# Altium footprint library S-Contactor without auxiliary power.PCBLIB: 5 footprints
Each footprint in its own frame and in the unit in brackets; x right, y up, seen from the top. Pads: shape width x height; smd on the part's side, far side on the other; paste and mask are expansions set on the pad; w line width, h text height; cw(c..) or ccw(c..) is an arc to the next point about the centre after c.
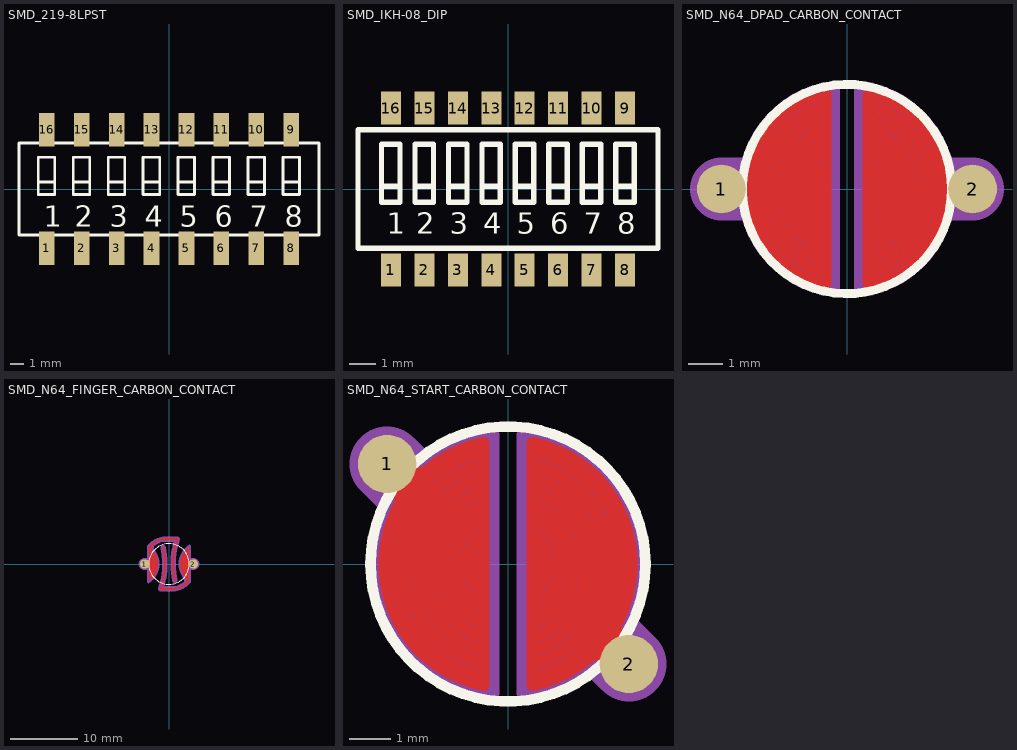
[diagram p0: the footprints below, top view; thin cyan lines are the x and y axes]

## SMD_219-8LPST [mm]
pads (16):
  rect 1.13x2.44 smd: 1(-8.89,-4.3) 2(-6.35,-4.3) 3(-3.81,-4.3) 4(-1.27,-4.3) 5(1.27,-4.3) 6(3.81,-4.3) 7(6.35,-4.3) 8(8.89,-4.3) 9(8.89,4.3) 10(6.35,4.3) 11(3.81,4.3) 12(1.27,4.3) 13(-1.27,4.3) 14(-3.81,4.3) 15(-6.35,4.3) 16(-8.89,4.3)
Top Overlay:
  lines w0.2: -9.5,0.5 -8.4,0.5 ; -6.96,0.5 -5.86,0.5 ; -4.42,0.5 -3.32,0.5 ; -1.88,0.5 -0.78,0.5 ; 0.66,0.5 1.76,0.5 ; 3.2,0.5 4.3,0.5 ; 5.74,0.5 6.84,0.5 ; 8.28,0.5 9.38,0.5 ; -10.895,-3.35 -10.895,3.35 10.895,3.35 10.895,-3.35 -10.895,-3.35 ; -9.5,-0.4 -8.3,-0.4 -8.3,2.3 -9.5,2.3 -9.5,-0.4 ; -6.96,-0.4 -5.76,-0.4 -5.76,2.3 -6.96,2.3 -6.96,-0.4 ; -4.42,-0.4 -3.22,-0.4 -3.22,2.3 -4.42,2.3 -4.42,-0.4 ; -1.88,-0.4 -0.68,-0.4 -0.68,2.3 -1.88,2.3 -1.88,-0.4 ; 0.66,-0.4 1.86,-0.4 1.86,2.3 0.66,2.3 0.66,-0.4 ; 3.2,-0.4 4.4,-0.4 4.4,2.3 3.2,2.3 3.2,-0.4 ; 5.74,-0.4 6.94,-0.4 6.94,2.3 5.74,2.3 5.74,-0.4 ; 8.28,-0.4 9.48,-0.4 9.48,2.3 8.28,2.3 8.28,-0.4
  text "1" at -9.09,-2.74 h1.52
  text "2" at -6.85,-2.74 h1.52
  text "3" at -4.31,-2.74 h1.52
  text "4" at -1.77,-2.74 h1.52
  text "5" at 0.77,-2.74 h1.52
  text "6" at 3.31,-2.74 h1.52
  text "7" at 5.85,-2.74 h1.52
  text "8" at 8.39,-2.74 h1.52

## SMD_IKH-08_DIP [mm]
height 1.5
pads (16):
  rect 0.76x1.25 smd: 1(-4.445,-3.075) 2(-3.175,-3.075) 3(-1.905,-3.075) 4(-0.635,-3.075) 5(0.635,-3.075) 6(1.905,-3.075) 7(3.175,-3.075) 8(4.445,-3.075) 9(4.445,3.075) 10(3.175,3.075) 11(1.905,3.075) 12(0.635,3.075) 13(-0.635,3.075) 14(-1.905,3.075) 15(-3.175,3.075) 16(-4.445,3.075)
Top Overlay:
  lines w0.2: -4.8,0.1 -4.1,0.1 ; -3.53,0.1 -2.83,0.1 ; -2.26,0.1 -1.56,0.1 ; -0.99,0.1 -0.29,0.1 ; 0.28,0.1 0.98,0.1 ; 1.55,0.1 2.25,0.1 ; 2.82,0.1 3.52,0.1 ; 4.09,0.1 4.79,0.1 ; -5.695,-2.25 -5.695,2.25 5.695,2.25 5.695,-2.25 -5.695,-2.25 ; -4.8,-0.5 -4.1,-0.5 -4.1,1.7 -4.8,1.7 -4.8,-0.5 ; -3.53,-0.5 -2.83,-0.5 -2.83,1.7 -3.53,1.7 -3.53,-0.5 ; -2.26,-0.5 -1.56,-0.5 -1.56,1.7 -2.26,1.7 -2.26,-0.5 ; -0.99,-0.5 -0.29,-0.5 -0.29,1.7 -0.99,1.7 -0.99,-0.5 ; 0.28,-0.5 0.98,-0.5 0.98,1.7 0.28,1.7 0.28,-0.5 ; 1.55,-0.5 2.25,-0.5 2.25,1.7 1.55,1.7 1.55,-0.5 ; 2.82,-0.5 3.52,-0.5 3.52,1.7 2.82,1.7 2.82,-0.5 ; 4.09,-0.5 4.79,-0.5 4.79,1.7 4.09,1.7 4.09,-0.5
  text "8" at 4.14,-1.7 h0.8
  text "7" at 2.87,-1.7 h0.8
  text "6" at 1.6,-1.7 h0.8
  text "5" at 0.33,-1.7 h0.8
  text "4" at -0.94,-1.7 h0.8
  text "3" at -2.21,-1.7 h0.8
  text "2" at -3.48,-1.7 h0.8
  text "1" at -4.6,-1.7 h0.8

## SMD_N64_DPAD_CARBON_CONTACT [mm]
pads (2):
  round 1.4 smd: 1(-3.6,0) 2(3.6,0)
Top Layer:
  lines w0.3: -3.6,0 -0.6,0 ; -0.657,2.064 ccw(c0,0) -0.622,-2.075 ; -0.651,-1.086 cw(c0,0) -0.651,1.086 ; -0.636,1.431 ccw(c0,0) -0.617,-1.439 ; -0.632,-0.211 cw(c0,0) -0.632,0.211 ; -0.629,-0.733 cw(c0,0) -0.629,0.733 ; -0.622,-2.386 cw(c0,0) -0.622,2.386 ; -0.621,-1.76 cw(c0,0) -0.621,1.76 ; 0.617,1.439 cw(c0,0) 0.636,-1.431 ; 0.621,-1.76 ccw(c0,0) 0.621,1.76 ; 0.622,-2.386 ccw(c0,0) 0.622,2.386 ; 0.622,2.075 cw(c0,0) 0.657,-2.064 ; 0.629,-0.733 ccw(c0,0) 0.629,0.733 ; 0.632,-0.211 ccw(c0,0) 0.632,0.211 ; 0.651,-1.086 ccw(c0,0) 0.651,1.086 ; 3.6,0 0.6,0 ; -0.6,0 -0.6,2.7 ccw(c0,0) -0.6,-2.7 -0.6,0 ; 0.6,0 0.6,2.7 cw(c0,0) 0.6,-2.7 0.6,0
  lines w1: -3.6,0 -2.6,0 ; 2.5,0 3.6,0
Top Overlay:
  circle w0.254: c0,0 r3
Top Solder:
  lines w0.4: -0.594,-2.377 cw(c0,0) -0.572,2.382 ; -0.589,-1.964 cw(c0,0) -0.563,1.971 ; -0.549,-1.556 cw(c0,0) -0.522,1.565 ; -0.517,-1.138 cw(c0,0) -0.517,1.138 ; -0.51,-0.68 cw(c0,0) -0.51,0.68 ; -0.503,-0.168 cw(c0,0) -0.503,0.168 ; -0.501,2.806 ccw(c0,0) -0.501,-2.806 ; -0.5,-2.8 -0.5,2.8 ; 0.5,-2.8 0.5,2.8 ; 0.501,2.806 cw(c0,0) 0.501,-2.806 ; 0.503,-0.168 ccw(c0,0) 0.503,0.168 ; 0.51,-0.68 ccw(c0,0) 0.51,0.68 ; 0.517,-1.138 ccw(c0,0) 0.517,1.138 ; 0.522,-1.565 ccw(c0,0) 0.549,1.556 ; 0.563,-1.971 ccw(c0,0) 0.589,1.964 ; 0.572,-2.382 ccw(c0,0) 0.594,2.377
  lines w1.6: -3.6,0 -1.8,0 ; 1.8,0 3.6,0
Mechanical 3:
  lines w0.4: -0.494,-1.235 cw(c0,0) -0.494,1.235 ; -0.463,-1.667 cw(c0,0) -0.463,1.667 ; -0.445,-0.816 cw(c0,0) -0.416,0.832 ; -0.424,-0.318 cw(c0,0) -0.424,0.318 ; -0.418,-2.089 cw(c0,0) -0.418,2.089 ; -0.416,-2.496 cw(c0,0) -0.416,2.496 ; -0.4,-2.903 cw(c0,0) -0.4,2.903 ; -0.4,-2.9 -0.4,2.9 ; 0.401,-2.903 ccw(c0,0) 0.4,2.903 ; 0.4,-2.9 0.4,2.9 ; 0.416,-2.496 ccw(c0,0) 0.416,2.496 ; 0.416,0.832 cw(c0,0) 0.445,-0.816 ; 0.418,-2.089 ccw(c0,0) 0.418,2.089 ; 0.424,-0.318 ccw(c0,0) 0.424,0.318 ; 0.463,-1.667 ccw(c0,0) 0.463,1.667 ; 0.494,-1.235 ccw(c0,0) 0.494,1.235
  lines w1.8: -3.6,0 -2.3,0 ; 2.3,0 3.6,0

## SMD_N64_FINGER_CARBON_CONTACT [mm]
pads (2):
  round 1.4 smd: 1(-3.6,0) 2(3.6,0)
Top Layer:
  lines w0.3: -3.6,0 -2.8,0 ; -0.862,2.364 cw(c-11.4,0) -1.247,-3.683 0.447,-3.683 ccw(c0.447,-0.617) 2.615,-2.785 ccw(c2.169,-2.339) 2.8,-2.339 ; 0.862,-2.364 cw(c11.4,0) 1.247,3.683 -0.447,3.683 ccw(c-0.447,0.617) -2.615,2.785 ccw(c-2.169,2.339) -2.8,2.339 ; 2.8,0 3.6,0 ; -2.8,2.339 ccw(c-2.465,2.339) -2.702,2.102 -2.599,1.999 cw(c-4.528,0.07) -1.8,0.07 cw(c-4.866,0.07) -2.698,-2.098 -2.8,-2.2 -2.8,2.339 ; 2.8,-2.339 ccw(c2.465,-2.339) 2.702,-2.102 2.599,-1.999 cw(c4.528,-0.07) 1.8,-0.07 cw(c4.866,-0.07) 2.698,2.098 2.8,2.2 2.8,-2.339
  lines w0.4: -2.708,-1.671 ccw(c-4.7,0) -2.697,1.658 ; 2.697,-1.658 cw(c4.7,0) 2.708,1.671
  lines w0.45: -2.703,-1.141 ccw(c-4.7,0) -2.703,1.141 ; -2.657,-0.51 ccw(c-4.9,0) -2.648,0.469 ; 2.648,-0.469 cw(c4.9,0) 2.657,0.51 ; 2.703,-1.141 cw(c4.7,0) 2.703,1.141
  lines w1: -3.6,0 -2.8,0 ; 2.8,0 3.6,0
Top Overlay:
  circle w0.1: c0,0 r3
Top Solder:
  lines w0.4: -2.949,-2.478 -2.949,2.471 ; -2.945,-2.484 ccw(c-4.8,0) -2.941,2.481 ; -2.929,-0.707 ccw(c-4.8,0) -2.923,0.691 ; -2.918,-1.322 ccw(c-4.8,0) -2.902,1.299 ; -2.916,-1.934 ccw(c-4.8,0) -2.916,1.934 ; 2.902,-1.299 cw(c4.8,0) 2.918,1.322 ; 2.916,-1.934 cw(c4.8,0) 2.916,1.934 ; 2.923,-0.691 cw(c4.8,0) 2.929,0.707 ; 2.941,-2.481 cw(c4.8,0) 2.945,2.484 ; 2.949,-2.471 2.949,2.478
  lines w0.6: -2.8,2.1 -2.8,2.6 -2.615,2.785 cw(c-0.447,0.617) -0.447,3.683 1.247,3.683 ; -1.247,-3.683 0.447,-3.683 ccw(c0.447,-0.617) 2.615,-2.785 2.8,-2.6 2.8,-2.1 ; -1.238,-3.658 ccw(c-11.4,0) -0.867,2.385 ; 0.867,-2.385 cw(c11.4,0) 1.238,3.658
  lines w1.6: -3.6,0 -2.4,0 ; 2.4,0 3.6,0
Mechanical 3:
  lines w0.4: -3.049,2.671 -3.049,-2.678 ccw(c-4.8,0) -3.049,2.678 ; -3.028,-1.619 ccw(c-4.8,0) -3.028,1.619 ; -3.027,-2.167 ccw(c-4.8,0) -3.007,2.15 ; -2.993,-0.856 ccw(c-4.8,0) -2.976,0.821 ; 2.976,-0.821 cw(c4.8,0) 2.993,0.856 ; 3.007,-2.15 cw(c4.8,0) 3.027,2.167 ; 3.028,-1.619 cw(c4.8,0) 3.028,1.619 ; 3.049,-2.678 cw(c4.8,0) 3.049,2.678 3.049,-2.671
  lines w0.8: -2.8,2.6 -2.615,2.785 ; -2.6,2.1 -2.6,2.748 ccw(c-2.652,2.748) -2.615,2.785 ; -0.867,2.385 cw(c-11.4,0) -1.247,-3.683 0.447,-3.683 ccw(c0.447,-0.617) 2.615,-2.785 ; 0.867,-2.385 cw(c11.4,0) 1.247,3.683 -0.447,3.683 ccw(c-0.447,0.617) -2.615,2.785 ; 2.6,-2.1 2.6,-2.748 ccw(c2.652,-2.748) 2.615,-2.785 ; 2.8,-2.6 2.615,-2.785
  lines w1.8: -3.6,0 -2.4,0 ; 2.4,0 3.6,0

## SMD_N64_START_CARBON_CONTACT [mm]
pads (2):
  round 1.4 smd: 1(-2.9,2.4) 2(2.9,-2.4)
Top Layer:
  lines w0.3: -0.657,2.064 ccw(c0,0) -0.622,-2.075 ; -0.651,-1.086 cw(c0,0) -0.651,1.086 ; -0.636,1.431 ccw(c0,0) -0.617,-1.439 ; -0.632,-0.211 cw(c0,0) -0.632,0.211 ; -0.629,-0.733 cw(c0,0) -0.629,0.733 ; -0.622,-2.386 cw(c0,0) -0.622,2.386 ; -0.621,-1.76 cw(c0,0) -0.621,1.76 ; -0.6,-2.7 cw(c0,0) -0.6,2.7 ; 0.6,-2.7 ccw(c0,0) 0.6,2.7 ; 0.617,1.439 cw(c0,0) 0.636,-1.431 ; 0.621,-1.76 ccw(c0,0) 0.621,1.76 ; 0.622,-2.386 ccw(c0,0) 0.622,2.386 ; 0.622,2.075 cw(c0,0) 0.657,-2.064 ; 0.629,-0.733 ccw(c0,0) 0.629,0.733 ; 0.632,-0.211 ccw(c0,0) 0.632,0.211 ; 0.651,-1.086 ccw(c0,0) 0.651,1.086 ; -0.6,-2.9 cw(c0,0) -0.6,2.9 -0.6,0 -0.6,-2.9 ; 0.6,-2.9 ccw(c0,0) 0.6,2.9 0.6,0 0.6,-2.9
  lines w1: -2.9,2.4 -1.6,1.1 ; 1.6,-1.1 2.9,-2.4
Top Overlay:
  circle w0.254: c0,0 r3.3
Top Solder:
  lines w0.4: -0.585,1.755 ccw(c0,0) -0.522,-1.775 ; -0.571,-1.333 cw(c0,0) -0.571,1.333 ; -0.54,-0.9 cw(c0,0) -0.51,0.918 ; -0.521,-2.189 cw(c0,0) -0.521,2.189 ; -0.52,-2.599 cw(c0,0) -0.52,2.599 ; -0.516,-0.516 cw(c0,0) -0.516,0.516 ; 0.51,-0.918 ccw(c0,0) 0.54,0.9 ; 0.516,-0.516 ccw(c0,0) 0.516,0.516 ; 0.52,-2.599 ccw(c0,0) 0.52,2.599 ; 0.521,-2.189 ccw(c0,0) 0.521,2.189 ; 0.522,1.775 cw(c0,0) 0.585,-1.755 ; 0.571,-1.333 ccw(c0,0) 0.571,1.333 ; -0.5,-3 cw(c0,0) -0.5,3 -0.5,-3 ; 0.5,-3 ccw(c0,0) 0.5,3 0.5,-3
  lines w1.6: -2.9,2.4 -1.9,1.4 ; 1.9,-1.4 2.9,-2.4
Mechanical 3:
  lines w0.4: -0.468,-1.029 cw(c0,0) -0.468,1.029 ; -0.467,-0.561 cw(c0,0) -0.467,0.561 ; -0.457,-2.285 cw(c0,0) -0.457,2.285 ; -0.456,-1.46 cw(c0,0) -0.456,1.46 ; -0.449,-2.693 cw(c0,0) -0.449,2.693 ; -0.447,-1.878 cw(c0,0) -0.447,1.878 ; -0.401,-3.104 cw(c0,0) -0.401,3.104 ; -0.4,-3.1 -0.4,3.1 ; 0.401,-3.104 ccw(c0,0) 0.401,3.104 ; 0.4,-3.1 0.4,3.1 ; 0.447,-1.878 ccw(c0,0) 0.447,1.878 ; 0.449,-2.693 ccw(c0,0) 0.449,2.693 ; 0.456,-1.46 ccw(c0,0) 0.456,1.46 ; 0.457,-2.285 ccw(c0,0) 0.457,2.285 ; 0.468,-1.029 ccw(c0,0) 0.468,1.029 ; 0.467,-0.561 ccw(c0,0) 0.467,0.561
  lines w1.8: -2.9,2.4 -1.6,1.1 ; 1.6,-1.1 2.9,-2.4